# EAGLE library part AS-ITM-00305 (library tinycircuits)
Multi-Directional Switches 4-directn cntr push W/boss 200K Cycles
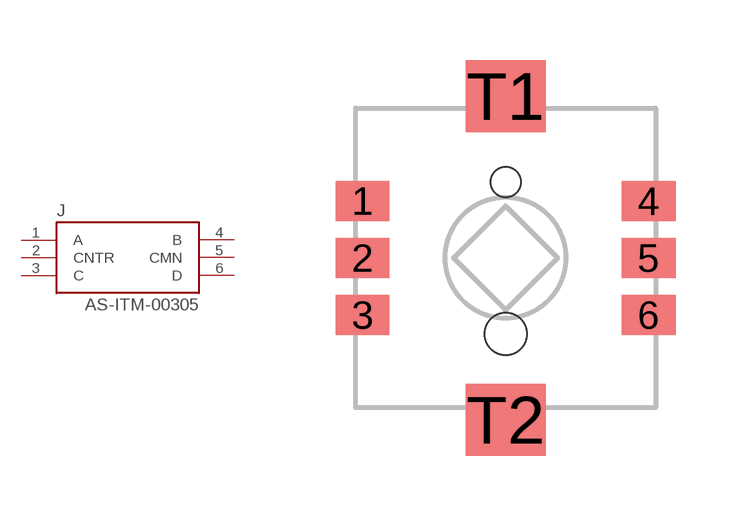
[diagram p121: symbol with the pads of SKRHA; footprint SKRHA]

Designator prefix J

## AS-ITM-00305 (PARTNO: AS-ITM-00305; PNPROTATION: 225; VALUE: SKRHABE010)  [SKRHA]
1  A
2  CNTR
3  C
4  B
5  CMN
6  D

## Footprint SKRHA (pad centres in mm)
smd 1.35 x 1: 1 -3.575,1.425; 2 -3.575,0; 3 -3.575,-1.425; 4 3.575,1.425; 5 3.575,0; 6 3.575,-1.425
smd 2 x 1.8: T1 0,4.05; T2 0,-4.05
hole 1.05 at 0,-1.9
hole 0.75 at 0,1.9